# Altium integrated library Analog Devices Data Converters Analog-to-Digital Converters.IntLib: 2400 symbols (part 151 of 338)
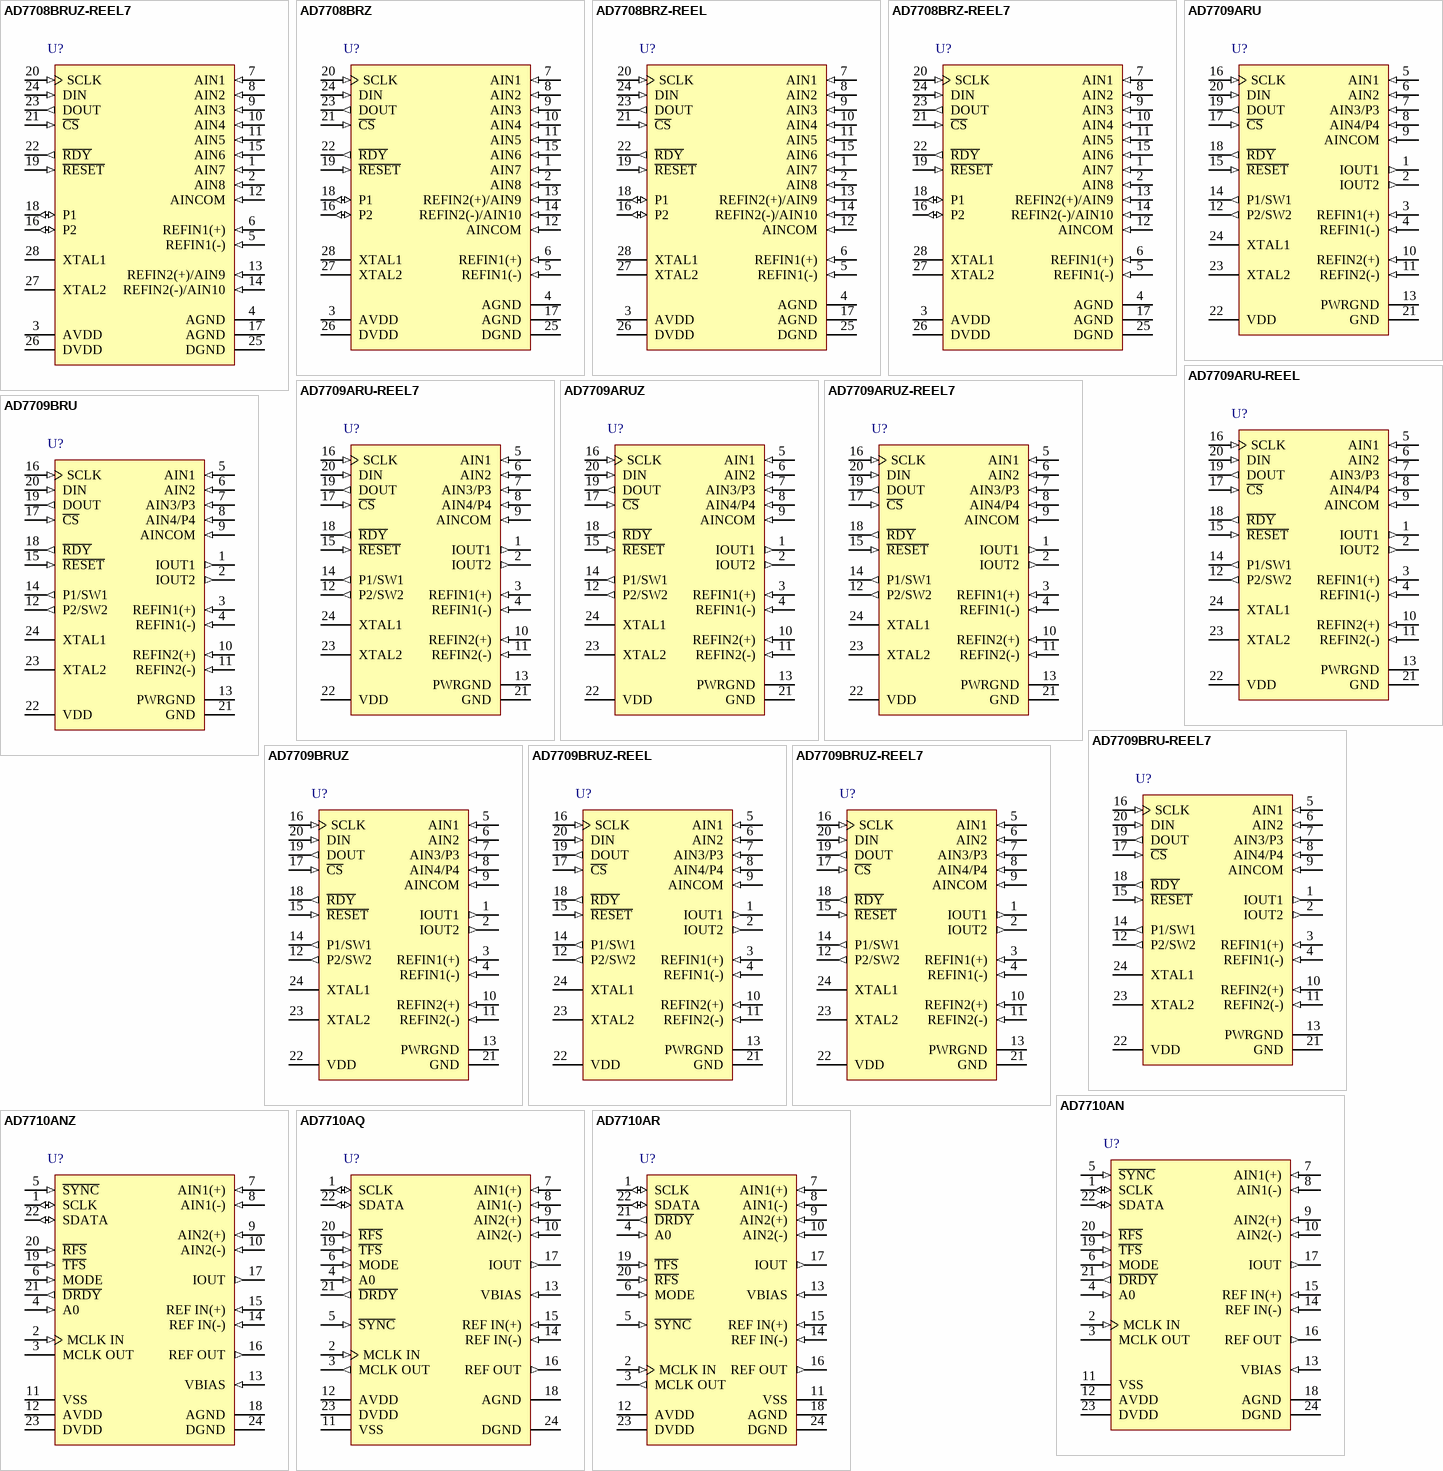
[diagram p241: symbols AD7708BRUZ-REEL7 to AD7710AR]

## AD7709BRU
designator U?
Quad 16-Bit Sigma-Delta Analog-to-Digital Converter with Serial, SPI Interface, 105SPS, -40 to +85 degC, RU-24, Tube; Part Number: AD7709; Manufacturer: Analog Devices; Resolution (Bits): 16; Channels: 4; Throughput Rate (SPS): 105; Interface: Ser, SPI; DatasheetVersion: Rev.A; PackageVersion: 2002; PackageReference: RU-24; PackageDescription: 24-Lead Thin Shrink Small Outline Package [TSSOP]; RoHS: N; Packing: Tube; Mounting Technology: Surface Mount; Code_JEDEC: MO-153-AD; ComponentLink1Description: Manufacturer URL; ComponentLink1URL: http://www.analog.com/en/index.html; ComponentLink2Description: Datasheet; ComponentLink2URL: http://www.analog.com/static/imported-files/data_sheets/AD7709.pdf; ComponentLink3Description: Package Specification; ComponentLink3URL: http://www.analog.com/static/imported-files/packages/380523655245964505593671154107510036154RU24.pdf; ComponentLink4Description: Product URL; ComponentLink4URL: http://www.analog.com/en/analog-to-digital-converters/ad-converters/ad7709/products/product.html
footprint RU-24_N (TSOP, 24-Leads, Body 7.8x4.4mm, Pitch 0.65mm, IPC Medium Density)
footprint RU-24_L (TSOP, 24-Leads, Body 7.8x4.4mm, Pitch 0.65mm, IPC High Density)
footprint RU-24_M (TSOP, 24-Leads, Body 7.8x4.4mm, Pitch 0.65mm, IPC Low Density)
pins: 1 IOUT1 (out) "Output for Internal Excitation Current Source. Either current source IEXC1, IEXC2, IEXC3, or a combination of the current sources, can be switched to this output.", 2 IOUT2 (out) "Output for Internal Excitation Current Source. Either current source IEXC1, IEXC2, IEXC3, or a combination of the current sources, can be switched to this output.", 3 REFIN1(+) (in) "Positive Reference Input. REFIN1(+) can lie anywhere between VDD and GND + 1 V. The nominal reference voltage (REFIN1(+) - REFIN1(-)) is 2.5 V, but the part is functional with a reference range from 1 V to VDD.", 4 REFIN1(-) (in) "Negative Reference Input. This reference input can lie anywhere between GND and VDD - 1 V.", 5 AIN1 (in) "Analog Input. Programmable gain input that can be used as a pseudo-differential input when used with AINCOM or as the positive input of a fully differential input pair when used with AIN2.", 6 AIN2 (in) "Analog Input. Programmable gain input that can be used as a pseudo-differential input when used with AINCOM or as the negative input of a fully differential input pair when used with AIN1.", 7 AIN3/P3 (in) "Analog Input/Digital Port Bit. Programmable gain input that can be used as a pseudo-differential input when used with AINCOM or as the positive input of a fully differential input pair when used with AIN4. This pin can also (See Datasheet)", 8 AIN4/P4 (in) "Analog Input/Digital Port Bit. Programmable gain input that can be used as a pseudo-differential input when used with AINCOM or as the negative input of a fully-differential input pair when used with AIN3. This pin can also (See Datasheet)", 9 AINCOM (in) "All analog inputs are referenced to this input when configured in pseudo-differential input mode.", 10 REFIN2(+) (in) "Positive Reference Input. REFIN2(+) can lie anywhere between VDD and GND + 1 V. The nominal reference voltage (REFIN2(+) - REFIN2(-)) is 2.5 V, but the part is functional with a reference range from 1 V to VDD.", 11 REFIN2(-) (in) "Negative Reference Input. This reference input can lie anywhere between GND and VDD - 1 V.", 12 P2/SW2 (out) "Dual-Purpose Pin. It can act as a general-purpose output (P2) bit or as a low-side power switch (SW2)  to PWRGND.", 13 PWRGND (power) "Ground Point for the Low-Side Power Switches SW2 and SW1. PWRGND must be tied to GND.", 14 P1/SW1 (out) "Dual-Purpose Pin. It can act as a general-purpose output (P1) bit or as a low-side power switch (SW1) to PWRGND.", 15 ~{RESET} (in) "Digital Input Used to Reset the ADC to Its Power-On-Reset Status. This pin has a weak pull-up internally to VDD.", 16 SCLK (in) "Serial Clock Input for Data Transfers to and from the ADC. The SCLK has a Schmitt-triggered input making the interface suitable for opto-isolated applications. The serial clock can be continuous with all data transmitted in (See Datasheet)", 17 ~{CS} (in) "Chip Select Input. This is an active low logic input used to select the AD7709. C\S\ can be used to select the AD7709 in systems with more than one device on the serial bus or as a frame synchronization signal in (See Datasheet)", 18 ~{RDY} (out) "R\D\Y\ is a Logic Low Status Output from the AD7709. R\D\Y\ is low if the ADC has valid data in its data register. This output returns high on completion of a read operation from the data register. If data is not read, (See Datasheet)", 19 DOUT (out) "Serial Data Output Accessing the Output Shift Register of the AD7709. The output shift register can contain data from any of the on-chip data or control registers.", 20 DIN (in) "Serial Data Input Accessing the Input Shift Register on the AD7709. Data in this shift register is transferred to the control registers within the ADC, the selection bits of the communications register selecting which (See Datasheet)", 21 GND (power) "Ground Reference Point for the AD7709", 22 VDD (power) "Supply Voltage, 3 V or 5 V Nominal", 23 XTAL2 "Output from the 32.768 kHz Crystal Oscillator Inverter", 24 XTAL1 "Input to the 32.768 kHz Crystal Oscillator Inverter"

## AD7709BRU-REEL7
designator U?
Quad 16-Bit Sigma-Delta Analog-to-Digital Converter with Serial, SPI Interface, 105SPS, -40 to +85 degC, RU-24, Reel; Part Number: AD7709; Manufacturer: Analog Devices; Resolution (Bits): 16; Channels: 4; Throughput Rate (SPS): 105; Interface: Ser, SPI; DatasheetVersion: Rev.A; PackageVersion: 2002; PackageReference: RU-24; PackageDescription: 24-Lead Thin Shrink Small Outline Package [TSSOP]; RoHS: N; Packing: Reel; Mounting Technology: Surface Mount; Code_JEDEC: MO-153-AD; ComponentLink1Description: Manufacturer URL; ComponentLink1URL: http://www.analog.com/en/index.html; ComponentLink2Description: Datasheet; ComponentLink2URL: http://www.analog.com/static/imported-files/data_sheets/AD7709.pdf; ComponentLink3Description: Package Specification; ComponentLink3URL: http://www.analog.com/static/imported-files/packages/380523655245964505593671154107510036154RU24.pdf; ComponentLink4Description: Product URL; ComponentLink4URL: http://www.analog.com/en/analog-to-digital-converters/ad-converters/ad7709/products/product.html
footprint RU-24_N (TSOP, 24-Leads, Body 7.8x4.4mm, Pitch 0.65mm, IPC Medium Density)
footprint RU-24_L (TSOP, 24-Leads, Body 7.8x4.4mm, Pitch 0.65mm, IPC High Density)
footprint RU-24_M (TSOP, 24-Leads, Body 7.8x4.4mm, Pitch 0.65mm, IPC Low Density)
pins: 1 IOUT1 (out) "Output for Internal Excitation Current Source. Either current source IEXC1, IEXC2, IEXC3, or a combination of the current sources, can be switched to this output.", 2 IOUT2 (out) "Output for Internal Excitation Current Source. Either current source IEXC1, IEXC2, IEXC3, or a combination of the current sources, can be switched to this output.", 3 REFIN1(+) (in) "Positive Reference Input. REFIN1(+) can lie anywhere between VDD and GND + 1 V. The nominal reference voltage (REFIN1(+) - REFIN1(-)) is 2.5 V, but the part is functional with a reference range from 1 V to VDD.", 4 REFIN1(-) (in) "Negative Reference Input. This reference input can lie anywhere between GND and VDD - 1 V.", 5 AIN1 (in) "Analog Input. Programmable gain input that can be used as a pseudo-differential input when used with AINCOM or as the positive input of a fully differential input pair when used with AIN2.", 6 AIN2 (in) "Analog Input. Programmable gain input that can be used as a pseudo-differential input when used with AINCOM or as the negative input of a fully differential input pair when used with AIN1.", 7 AIN3/P3 (in) "Analog Input/Digital Port Bit. Programmable gain input that can be used as a pseudo-differential input when used with AINCOM or as the positive input of a fully differential input pair when used with AIN4. This pin can also (See Datasheet)", 8 AIN4/P4 (in) "Analog Input/Digital Port Bit. Programmable gain input that can be used as a pseudo-differential input when used with AINCOM or as the negative input of a fully-differential input pair when used with AIN3. This pin can also (See Datasheet)", 9 AINCOM (in) "All analog inputs are referenced to this input when configured in pseudo-differential input mode.", 10 REFIN2(+) (in) "Positive Reference Input. REFIN2(+) can lie anywhere between VDD and GND + 1 V. The nominal reference voltage (REFIN2(+) - REFIN2(-)) is 2.5 V, but the part is functional with a reference range from 1 V to VDD.", 11 REFIN2(-) (in) "Negative Reference Input. This reference input can lie anywhere between GND and VDD - 1 V.", 12 P2/SW2 (out) "Dual-Purpose Pin. It can act as a general-purpose output (P2) bit or as a low-side power switch (SW2)  to PWRGND.", 13 PWRGND (power) "Ground Point for the Low-Side Power Switches SW2 and SW1. PWRGND must be tied to GND.", 14 P1/SW1 (out) "Dual-Purpose Pin. It can act as a general-purpose output (P1) bit or as a low-side power switch (SW1) to PWRGND.", 15 ~{RESET} (in) "Digital Input Used to Reset the ADC to Its Power-On-Reset Status. This pin has a weak pull-up internally to VDD.", 16 SCLK (in) "Serial Clock Input for Data Transfers to and from the ADC. The SCLK has a Schmitt-triggered input making the interface suitable for opto-isolated applications. The serial clock can be continuous with all data transmitted in (See Datasheet)", 17 ~{CS} (in) "Chip Select Input. This is an active low logic input used to select the AD7709. C\S\ can be used to select the AD7709 in systems with more than one device on the serial bus or as a frame synchronization signal in (See Datasheet)", 18 ~{RDY} (out) "R\D\Y\ is a Logic Low Status Output from the AD7709. R\D\Y\ is low if the ADC has valid data in its data register. This output returns high on completion of a read operation from the data register. If data is not read, (See Datasheet)", 19 DOUT (out) "Serial Data Output Accessing the Output Shift Register of the AD7709. The output shift register can contain data from any of the on-chip data or control registers.", 20 DIN (in) "Serial Data Input Accessing the Input Shift Register on the AD7709. Data in this shift register is transferred to the control registers within the ADC, the selection bits of the communications register selecting which (See Datasheet)", 21 GND (power) "Ground Reference Point for the AD7709", 22 VDD (power) "Supply Voltage, 3 V or 5 V Nominal", 23 XTAL2 "Output from the 32.768 kHz Crystal Oscillator Inverter", 24 XTAL1 "Input to the 32.768 kHz Crystal Oscillator Inverter"

## AD7709BRUZ
designator U?
Quad 16-Bit Sigma-Delta Analog-to-Digital Converter with Serial, SPI Interface, 105SPS, -40 to +85 degC, RU-24, Pb-Free, Tube; Part Number: AD7709; Manufacturer: Analog Devices; Resolution (Bits): 16; Channels: 4; Throughput Rate (SPS): 105; Interface: Ser, SPI; DatasheetVersion: Rev.A; PackageVersion: 2002; PackageReference: RU-24; PackageDescription: 24-Lead Thin Shrink Small Outline Package [TSSOP]; RoHS: Y; Packing: Tube; Mounting Technology: Surface Mount; Code_JEDEC: MO-153-AD; ComponentLink1Description: Manufacturer URL; ComponentLink1URL: http://www.analog.com/en/index.html; ComponentLink2Description: Datasheet; ComponentLink2URL: http://www.analog.com/static/imported-files/data_sheets/AD7709.pdf; ComponentLink3Description: Package Specification; ComponentLink3URL: http://www.analog.com/static/imported-files/packages/380523655245964505593671154107510036154RU24.pdf; ComponentLink4Description: Product URL; ComponentLink4URL: http://www.analog.com/en/analog-to-digital-converters/ad-converters/ad7709/products/product.html
footprint RU-24_N (TSOP, 24-Leads, Body 7.8x4.4mm, Pitch 0.65mm, IPC Medium Density)
footprint RU-24_L (TSOP, 24-Leads, Body 7.8x4.4mm, Pitch 0.65mm, IPC High Density)
footprint RU-24_M (TSOP, 24-Leads, Body 7.8x4.4mm, Pitch 0.65mm, IPC Low Density)
pins: 1 IOUT1 (out) "Output for Internal Excitation Current Source. Either current source IEXC1, IEXC2, IEXC3, or a combination of the current sources, can be switched to this output.", 2 IOUT2 (out) "Output for Internal Excitation Current Source. Either current source IEXC1, IEXC2, IEXC3, or a combination of the current sources, can be switched to this output.", 3 REFIN1(+) (in) "Positive Reference Input. REFIN1(+) can lie anywhere between VDD and GND + 1 V. The nominal reference voltage (REFIN1(+) - REFIN1(-)) is 2.5 V, but the part is functional with a reference range from 1 V to VDD.", 4 REFIN1(-) (in) "Negative Reference Input. This reference input can lie anywhere between GND and VDD - 1 V.", 5 AIN1 (in) "Analog Input. Programmable gain input that can be used as a pseudo-differential input when used with AINCOM or as the positive input of a fully differential input pair when used with AIN2.", 6 AIN2 (in) "Analog Input. Programmable gain input that can be used as a pseudo-differential input when used with AINCOM or as the negative input of a fully differential input pair when used with AIN1.", 7 AIN3/P3 (in) "Analog Input/Digital Port Bit. Programmable gain input that can be used as a pseudo-differential input when used with AINCOM or as the positive input of a fully differential input pair when used with AIN4. This pin can also (See Datasheet)", 8 AIN4/P4 (in) "Analog Input/Digital Port Bit. Programmable gain input that can be used as a pseudo-differential input when used with AINCOM or as the negative input of a fully-differential input pair when used with AIN3. This pin can also (See Datasheet)", 9 AINCOM (in) "All analog inputs are referenced to this input when configured in pseudo-differential input mode.", 10 REFIN2(+) (in) "Positive Reference Input. REFIN2(+) can lie anywhere between VDD and GND + 1 V. The nominal reference voltage (REFIN2(+) - REFIN2(-)) is 2.5 V, but the part is functional with a reference range from 1 V to VDD.", 11 REFIN2(-) (in) "Negative Reference Input. This reference input can lie anywhere between GND and VDD - 1 V.", 12 P2/SW2 (out) "Dual-Purpose Pin. It can act as a general-purpose output (P2) bit or as a low-side power switch (SW2)  to PWRGND.", 13 PWRGND (power) "Ground Point for the Low-Side Power Switches SW2 and SW1. PWRGND must be tied to GND.", 14 P1/SW1 (out) "Dual-Purpose Pin. It can act as a general-purpose output (P1) bit or as a low-side power switch (SW1) to PWRGND.", 15 ~{RESET} (in) "Digital Input Used to Reset the ADC to Its Power-On-Reset Status. This pin has a weak pull-up internally to VDD.", 16 SCLK (in) "Serial Clock Input for Data Transfers to and from the ADC. The SCLK has a Schmitt-triggered input making the interface suitable for opto-isolated applications. The serial clock can be continuous with all data transmitted in (See Datasheet)", 17 ~{CS} (in) "Chip Select Input. This is an active low logic input used to select the AD7709. C\S\ can be used to select the AD7709 in systems with more than one device on the serial bus or as a frame synchronization signal in (See Datasheet)", 18 ~{RDY} (out) "R\D\Y\ is a Logic Low Status Output from the AD7709. R\D\Y\ is low if the ADC has valid data in its data register. This output returns high on completion of a read operation from the data register. If data is not read, (See Datasheet)", 19 DOUT (out) "Serial Data Output Accessing the Output Shift Register of the AD7709. The output shift register can contain data from any of the on-chip data or control registers.", 20 DIN (in) "Serial Data Input Accessing the Input Shift Register on the AD7709. Data in this shift register is transferred to the control registers within the ADC, the selection bits of the communications register selecting which (See Datasheet)", 21 GND (power) "Ground Reference Point for the AD7709", 22 VDD (power) "Supply Voltage, 3 V or 5 V Nominal", 23 XTAL2 "Output from the 32.768 kHz Crystal Oscillator Inverter", 24 XTAL1 "Input to the 32.768 kHz Crystal Oscillator Inverter"

## AD7709BRUZ-REEL
designator U?
Quad 16-Bit Sigma-Delta Analog-to-Digital Converter with Serial, SPI Interface, 105SPS, -40 to +85 degC, RU-24, Pb-Free, Reel; Part Number: AD7709; Manufacturer: Analog Devices; Resolution (Bits): 16; Channels: 4; Throughput Rate (SPS): 105; Interface: Ser, SPI; DatasheetVersion: Rev.A; PackageVersion: 2002; PackageReference: RU-24; PackageDescription: 24-Lead Thin Shrink Small Outline Package [TSSOP]; RoHS: Y; Packing: Reel; Mounting Technology: Surface Mount; Code_JEDEC: MO-153-AD; ComponentLink1Description: Manufacturer URL; ComponentLink1URL: http://www.analog.com/en/index.html; ComponentLink2Description: Datasheet; ComponentLink2URL: http://www.analog.com/static/imported-files/data_sheets/AD7709.pdf; ComponentLink3Description: Package Specification; ComponentLink3URL: http://www.analog.com/static/imported-files/packages/380523655245964505593671154107510036154RU24.pdf; ComponentLink4Description: Product URL; ComponentLink4URL: http://www.analog.com/en/analog-to-digital-converters/ad-converters/ad7709/products/product.html
footprint RU-24_N (TSOP, 24-Leads, Body 7.8x4.4mm, Pitch 0.65mm, IPC Medium Density)
footprint RU-24_L (TSOP, 24-Leads, Body 7.8x4.4mm, Pitch 0.65mm, IPC High Density)
footprint RU-24_M (TSOP, 24-Leads, Body 7.8x4.4mm, Pitch 0.65mm, IPC Low Density)
pins: 1 IOUT1 (out) "Output for Internal Excitation Current Source. Either current source IEXC1, IEXC2, IEXC3, or a combination of the current sources, can be switched to this output.", 2 IOUT2 (out) "Output for Internal Excitation Current Source. Either current source IEXC1, IEXC2, IEXC3, or a combination of the current sources, can be switched to this output.", 3 REFIN1(+) (in) "Positive Reference Input. REFIN1(+) can lie anywhere between VDD and GND + 1 V. The nominal reference voltage (REFIN1(+) - REFIN1(-)) is 2.5 V, but the part is functional with a reference range from 1 V to VDD.", 4 REFIN1(-) (in) "Negative Reference Input. This reference input can lie anywhere between GND and VDD - 1 V.", 5 AIN1 (in) "Analog Input. Programmable gain input that can be used as a pseudo-differential input when used with AINCOM or as the positive input of a fully differential input pair when used with AIN2.", 6 AIN2 (in) "Analog Input. Programmable gain input that can be used as a pseudo-differential input when used with AINCOM or as the negative input of a fully differential input pair when used with AIN1.", 7 AIN3/P3 (in) "Analog Input/Digital Port Bit. Programmable gain input that can be used as a pseudo-differential input when used with AINCOM or as the positive input of a fully differential input pair when used with AIN4. This pin can also (See Datasheet)", 8 AIN4/P4 (in) "Analog Input/Digital Port Bit. Programmable gain input that can be used as a pseudo-differential input when used with AINCOM or as the negative input of a fully-differential input pair when used with AIN3. This pin can also (See Datasheet)", 9 AINCOM (in) "All analog inputs are referenced to this input when configured in pseudo-differential input mode.", 10 REFIN2(+) (in) "Positive Reference Input. REFIN2(+) can lie anywhere between VDD and GND + 1 V. The nominal reference voltage (REFIN2(+) - REFIN2(-)) is 2.5 V, but the part is functional with a reference range from 1 V to VDD.", 11 REFIN2(-) (in) "Negative Reference Input. This reference input can lie anywhere between GND and VDD - 1 V.", 12 P2/SW2 (out) "Dual-Purpose Pin. It can act as a general-purpose output (P2) bit or as a low-side power switch (SW2)  to PWRGND.", 13 PWRGND (power) "Ground Point for the Low-Side Power Switches SW2 and SW1. PWRGND must be tied to GND.", 14 P1/SW1 (out) "Dual-Purpose Pin. It can act as a general-purpose output (P1) bit or as a low-side power switch (SW1) to PWRGND.", 15 ~{RESET} (in) "Digital Input Used to Reset the ADC to Its Power-On-Reset Status. This pin has a weak pull-up internally to VDD.", 16 SCLK (in) "Serial Clock Input for Data Transfers to and from the ADC. The SCLK has a Schmitt-triggered input making the interface suitable for opto-isolated applications. The serial clock can be continuous with all data transmitted in (See Datasheet)", 17 ~{CS} (in) "Chip Select Input. This is an active low logic input used to select the AD7709. C\S\ can be used to select the AD7709 in systems with more than one device on the serial bus or as a frame synchronization signal in (See Datasheet)", 18 ~{RDY} (out) "R\D\Y\ is a Logic Low Status Output from the AD7709. R\D\Y\ is low if the ADC has valid data in its data register. This output returns high on completion of a read operation from the data register. If data is not read, (See Datasheet)", 19 DOUT (out) "Serial Data Output Accessing the Output Shift Register of the AD7709. The output shift register can contain data from any of the on-chip data or control registers.", 20 DIN (in) "Serial Data Input Accessing the Input Shift Register on the AD7709. Data in this shift register is transferred to the control registers within the ADC, the selection bits of the communications register selecting which (See Datasheet)", 21 GND (power) "Ground Reference Point for the AD7709", 22 VDD (power) "Supply Voltage, 3 V or 5 V Nominal", 23 XTAL2 "Output from the 32.768 kHz Crystal Oscillator Inverter", 24 XTAL1 "Input to the 32.768 kHz Crystal Oscillator Inverter"

## AD7709BRUZ-REEL7
designator U?
Quad 16-Bit Sigma-Delta Analog-to-Digital Converter with Serial, SPI Interface, 105SPS, -40 to +85 degC, RU-24, Pb-Free, Reel; Part Number: AD7709; Manufacturer: Analog Devices; Resolution (Bits): 16; Channels: 4; Throughput Rate (SPS): 105; Interface: Ser, SPI; DatasheetVersion: Rev.A; PackageVersion: 2002; PackageReference: RU-24; PackageDescription: 24-Lead Thin Shrink Small Outline Package [TSSOP]; RoHS: Y; Packing: Reel; Mounting Technology: Surface Mount; Code_JEDEC: MO-153-AD; ComponentLink1Description: Manufacturer URL; ComponentLink1URL: http://www.analog.com/en/index.html; ComponentLink2Description: Datasheet; ComponentLink2URL: http://www.analog.com/static/imported-files/data_sheets/AD7709.pdf; ComponentLink3Description: Package Specification; ComponentLink3URL: http://www.analog.com/static/imported-files/packages/380523655245964505593671154107510036154RU24.pdf; ComponentLink4Description: Product URL; ComponentLink4URL: http://www.analog.com/en/analog-to-digital-converters/ad-converters/ad7709/products/product.html
footprint RU-24_N (TSOP, 24-Leads, Body 7.8x4.4mm, Pitch 0.65mm, IPC Medium Density)
footprint RU-24_L (TSOP, 24-Leads, Body 7.8x4.4mm, Pitch 0.65mm, IPC High Density)
footprint RU-24_M (TSOP, 24-Leads, Body 7.8x4.4mm, Pitch 0.65mm, IPC Low Density)
pins: 1 IOUT1 (out) "Output for Internal Excitation Current Source. Either current source IEXC1, IEXC2, IEXC3, or a combination of the current sources, can be switched to this output.", 2 IOUT2 (out) "Output for Internal Excitation Current Source. Either current source IEXC1, IEXC2, IEXC3, or a combination of the current sources, can be switched to this output.", 3 REFIN1(+) (in) "Positive Reference Input. REFIN1(+) can lie anywhere between VDD and GND + 1 V. The nominal reference voltage (REFIN1(+) - REFIN1(-)) is 2.5 V, but the part is functional with a reference range from 1 V to VDD.", 4 REFIN1(-) (in) "Negative Reference Input. This reference input can lie anywhere between GND and VDD - 1 V.", 5 AIN1 (in) "Analog Input. Programmable gain input that can be used as a pseudo-differential input when used with AINCOM or as the positive input of a fully differential input pair when used with AIN2.", 6 AIN2 (in) "Analog Input. Programmable gain input that can be used as a pseudo-differential input when used with AINCOM or as the negative input of a fully differential input pair when used with AIN1.", 7 AIN3/P3 (in) "Analog Input/Digital Port Bit. Programmable gain input that can be used as a pseudo-differential input when used with AINCOM or as the positive input of a fully differential input pair when used with AIN4. This pin can also (See Datasheet)", 8 AIN4/P4 (in) "Analog Input/Digital Port Bit. Programmable gain input that can be used as a pseudo-differential input when used with AINCOM or as the negative input of a fully-differential input pair when used with AIN3. This pin can also (See Datasheet)", 9 AINCOM (in) "All analog inputs are referenced to this input when configured in pseudo-differential input mode.", 10 REFIN2(+) (in) "Positive Reference Input. REFIN2(+) can lie anywhere between VDD and GND + 1 V. The nominal reference voltage (REFIN2(+) - REFIN2(-)) is 2.5 V, but the part is functional with a reference range from 1 V to VDD.", 11 REFIN2(-) (in) "Negative Reference Input. This reference input can lie anywhere between GND and VDD - 1 V.", 12 P2/SW2 (out) "Dual-Purpose Pin. It can act as a general-purpose output (P2) bit or as a low-side power switch (SW2)  to PWRGND.", 13 PWRGND (power) "Ground Point for the Low-Side Power Switches SW2 and SW1. PWRGND must be tied to GND.", 14 P1/SW1 (out) "Dual-Purpose Pin. It can act as a general-purpose output (P1) bit or as a low-side power switch (SW1) to PWRGND.", 15 ~{RESET} (in) "Digital Input Used to Reset the ADC to Its Power-On-Reset Status. This pin has a weak pull-up internally to VDD.", 16 SCLK (in) "Serial Clock Input for Data Transfers to and from the ADC. The SCLK has a Schmitt-triggered input making the interface suitable for opto-isolated applications. The serial clock can be continuous with all data transmitted in (See Datasheet)", 17 ~{CS} (in) "Chip Select Input. This is an active low logic input used to select the AD7709. C\S\ can be used to select the AD7709 in systems with more than one device on the serial bus or as a frame synchronization signal in (See Datasheet)", 18 ~{RDY} (out) "R\D\Y\ is a Logic Low Status Output from the AD7709. R\D\Y\ is low if the ADC has valid data in its data register. This output returns high on completion of a read operation from the data register. If data is not read, (See Datasheet)", 19 DOUT (out) "Serial Data Output Accessing the Output Shift Register of the AD7709. The output shift register can contain data from any of the on-chip data or control registers.", 20 DIN (in) "Serial Data Input Accessing the Input Shift Register on the AD7709. Data in this shift register is transferred to the control registers within the ADC, the selection bits of the communications register selecting which (See Datasheet)", 21 GND (power) "Ground Reference Point for the AD7709", 22 VDD (power) "Supply Voltage, 3 V or 5 V Nominal", 23 XTAL2 "Output from the 32.768 kHz Crystal Oscillator Inverter", 24 XTAL1 "Input to the 32.768 kHz Crystal Oscillator Inverter"

## AD7710AN
designator U?
Dual 24-Bit Signal Conditioning Analog-to-Digital Converter with Serial Interface, 1.028KSPS, -40 to +85 degC, N-24-1, Tube; Part Number: AD7710; Manufacturer: Analog Devices; Resolution (Bits): 24; Channels: 2; Throughput Rate (SPS): 1.028K; Interface: Ser; DatasheetVersion: Rev.G; PackageVersion: 071006-A; PackageReference: N-24-1; PackageDescription: 24-Lead Plastic Dual In-Line Package [PDIP] Narrow Body; RoHS: N; Packing: Tube; Mounting Technology: Through-hole; Code_JEDEC: MS-001; ComponentLink1Description: Manufacturer URL; ComponentLink1URL: http://www.analog.com/en/index.html; ComponentLink2Description: Datasheet; ComponentLink2URL: http://www.analog.com/static/imported-files/data_sheets/AD7710.pdf; ComponentLink3Description: Package Specification; ComponentLink3URL: http://www.analog.com/static/imported-files/packages/50726455539629N_24_1.pdf; ComponentLink4Description: Product URL; ComponentLink4URL: http://www.analog.com/en/analog-to-digital-converters/ad-converters/ad7710/products/product.html
footprint N-24-1 (DIP, 24-Leads, Row Spacing 7.62mm, Pitch 2.54mm, Body 31.9x6.6mm)
pins: 1 SCLK (io) "Serial Clock. Logic input/output, depending on the status of the MODE pin. When MODE is high, the device is in its self-clocking mode, and the SCLK pin provides a serial clock output. This SCLK becomes active when R\F\S\ or (See Datasheet)", 2 MCLK IN (in) "Master Clock Signal for the Device. This can be provided in the form of a crystal or external clock. A crystal can be tied across the MCLK IN and MCLK OUT pins. Alternatively, the MCLK IN pin can be driven with a CMOS (See Datasheet)", 3 MCLK OUT "When the master clock for the device is a crystal, the crystal is connected between MCLK IN and MCLK OUT.", 4 A0 (in) "Address Input. With this input low, reading and writing to the device is to the control register. With this input high, access is to either the data register or the calibration registers.", 5 ~{SYNC} (in) "Logic Input. Allows for synchronization of the digital filters when using a number of AD7710s. It resets the nodes of the digital filter.", 6 MODE (in) "Logic Input. When this pin is high, the device is in its self-clocking mode; with this pin low, the device is in its external clocking mode.", 7 AIN1(+) (in) "Analog Input Channel 1. Positive input of the programmable gain differential analog input. The AIN1(+) input is connected to an output current source that can be used to check that an external transducer has burned out or (See Datasheet)", 8 AIN1(-) (in) "Analog Input Channel 1. Negative input of the programmable gain differential analog input.", 9 AIN2(+) (in) "Analog Input Channel 2. Positive input of the programmable gain differential analog input.", 10 AIN2(-) (in) "Analog Input Channel 2. Negative input of the programmable gain differential analog input.", 11 VSS (power) "Analog Negative Supply, 0 V to -5 V. Tied to AGND for single-supply operation. The input voltage on AIN1 or AIN2 should not go > 30 mV negative w.r.t. VSS for correct operation of the device.", 12 AVDD (power) "Analog Positive Supply Voltage, 5 V to 10 V.", 13 VBIAS (in) "Input Bias Voltage. This input voltage should be set such that VBIAS + 0.85 x VREF < AVDD and VBIAS - 0.85 x VREF > VSS where VREF is REF IN(+) - REF IN(-). Ideally, this should be tied halfway between AVDD and VSS. Thus (See Datasheet)", 14 REF IN(-) (in) "Reference Input. The REF IN(-) can lie anywhere between AVDD and VSS provided REF IN(+) is greater than REF IN(-).", 15 REF IN(+) (in) "Reference Input. The reference input is differential providing that REF IN(+) is greater than REF IN(-). REF IN(+) can lie anywhere between AVDD and VSS.", 16 REF OUT (out) "Reference Output. The internal 2.5 V reference is provided at this pin. This is a single-ended output which is referred to AGND. It is a buffered output which is capable of providing 1 mA to an external load.", 17 IOUT (out) "Compensation Current Output. A 20 μA constant current is provided at this pin. This current can be used in association with an external thermistor to provide cold junction compensation in thermocouple applications.This (See Datasheet)", 18 AGND (power) "Ground Reference Point for Analog Circuitry.", 19 ~{TFS} (in) "Transmit Frame Synchronization. Active low logic input used to write serial data to the device with serial data expected after the falling edge of this pulse. In the self-clocking mode, the serial clock becomes active after (See Datasheet)", 20 ~{RFS} (in) "Receive Frame Synchronization. Active low logic input used to access serial data from the device. In the self-clocking mode, the SCLK and SDATA lines both become active after R\F\S\ goes low. In the external clocking mode, (See Datasheet)", 21 ~{DRDY} (out) "Logic Output. A falling edge indicates that a new output word is available for transmission. The D\R\D\Y\ pin will return high upon completion of transmission of a full output word. D\R\D\Y\ is also used to indicate when the (See Datasheet)", 22 SDATA (io) "Serial Data. Input/output with serial data being written to either the control register or the calibration registers, and serial data being accessed from the control register, calibration registers, or the data register. (See Datasheet)", 23 DVDD (power) "Digital Supply Voltage, 5 V. DVDD should not exceed AVDD by more than 0.3 V in normal operation.", 24 DGND (power) "Ground Reference Point for Digital Circuitry."

## AD7710ANZ
designator U?
Dual 24-Bit Signal Conditioning Analog-to-Digital Converter with Serial Interface, 1.028KSPS, -40 to +85 degC, N-24-1, Pb-Free, Tube; Part Number: AD7710; Manufacturer: Analog Devices; Resolution (Bits): 24; Channels: 2; Throughput Rate (SPS): 1.028K; Interface: Ser; DatasheetVersion: Rev.G; PackageVersion: 071006-A; PackageReference: N-24-1; PackageDescription: 24-Lead Plastic Dual In-Line Package [PDIP] Narrow Body; RoHS: Y; Packing: Tube; Mounting Technology: Through-hole; Code_JEDEC: MS-001; ComponentLink1Description: Manufacturer URL; ComponentLink1URL: http://www.analog.com/en/index.html; ComponentLink2Description: Datasheet; ComponentLink2URL: http://www.analog.com/static/imported-files/data_sheets/AD7710.pdf; ComponentLink3Description: Package Specification; ComponentLink3URL: http://www.analog.com/static/imported-files/packages/50726455539629N_24_1.pdf; ComponentLink4Description: Product URL; ComponentLink4URL: http://www.analog.com/en/analog-to-digital-converters/ad-converters/ad7710/products/product.html
footprint N-24-1 (DIP, 24-Leads, Row Spacing 7.62mm, Pitch 2.54mm, Body 31.9x6.6mm)
pins: 1 SCLK (io) "Serial Clock. Logic input/output, depending on the status of the MODE pin. When MODE is high, the device is in its self-clocking mode, and the SCLK pin provides a serial clock output. This SCLK becomes active when R\F\S\ or (See Datasheet)", 2 MCLK IN (in) "Master Clock Signal for the Device. This can be provided in the form of a crystal or external clock. A crystal can be tied across the MCLK IN and MCLK OUT pins. Alternatively, the MCLK IN pin can be driven with a CMOS (See Datasheet)", 3 MCLK OUT "When the master clock for the device is a crystal, the crystal is connected between MCLK IN and MCLK OUT.", 4 A0 (in) "Address Input. With this input low, reading and writing to the device is to the control register. With this input high, access is to either the data register or the calibration registers.", 5 ~{SYNC} (in) "Logic Input. Allows for synchronization of the digital filters when using a number of AD7710s. It resets the nodes of the digital filter.", 6 MODE (in) "Logic Input. When this pin is high, the device is in its self-clocking mode; with this pin low, the device is in its external clocking mode.", 7 AIN1(+) (in) "Analog Input Channel 1. Positive input of the programmable gain differential analog input. The AIN1(+) input is connected to an output current source that can be used to check that an external transducer has burned out or (See Datasheet)", 8 AIN1(-) (in) "Analog Input Channel 1. Negative input of the programmable gain differential analog input.", 9 AIN2(+) (in) "Analog Input Channel 2. Positive input of the programmable gain differential analog input.", 10 AIN2(-) (in) "Analog Input Channel 2. Negative input of the programmable gain differential analog input.", 11 VSS (power) "Analog Negative Supply, 0 V to -5 V. Tied to AGND for single-supply operation. The input voltage on AIN1 or AIN2 should not go > 30 mV negative w.r.t. VSS for correct operation of the device.", 12 AVDD (power) "Analog Positive Supply Voltage, 5 V to 10 V.", 13 VBIAS (in) "Input Bias Voltage. This input voltage should be set such that VBIAS + 0.85 x VREF < AVDD and VBIAS - 0.85 x VREF > VSS where VREF is REF IN(+) - REF IN(-). Ideally, this should be tied halfway between AVDD and VSS. Thus (See Datasheet)", 14 REF IN(-) (in) "Reference Input. The REF IN(-) can lie anywhere between AVDD and VSS provided REF IN(+) is greater than REF IN(-).", 15 REF IN(+) (in) "Reference Input. The reference input is differential providing that REF IN(+) is greater than REF IN(-). REF IN(+) can lie anywhere between AVDD and VSS.", 16 REF OUT (out) "Reference Output. The internal 2.5 V reference is provided at this pin. This is a single-ended output which is referred to AGND. It is a buffered output which is capable of providing 1 mA to an external load.", 17 IOUT (out) "Compensation Current Output. A 20 μA constant current is provided at this pin. This current can be used in association with an external thermistor to provide cold junction compensation in thermocouple applications.This (See Datasheet)", 18 AGND (power) "Ground Reference Point for Analog Circuitry.", 19 ~{TFS} (in) "Transmit Frame Synchronization. Active low logic input used to write serial data to the device with serial data expected after the falling edge of this pulse. In the self-clocking mode, the serial clock becomes active after (See Datasheet)", 20 ~{RFS} (in) "Receive Frame Synchronization. Active low logic input used to access serial data from the device. In the self-clocking mode, the SCLK and SDATA lines both become active after R\F\S\ goes low. In the external clocking mode, (See Datasheet)", 21 ~{DRDY} (out) "Logic Output. A falling edge indicates that a new output word is available for transmission. The D\R\D\Y\ pin will return high upon completion of transmission of a full output word. D\R\D\Y\ is also used to indicate when the (See Datasheet)", 22 SDATA (io) "Serial Data. Input/output with serial data being written to either the control register or the calibration registers, and serial data being accessed from the control register, calibration registers, or the data register. (See Datasheet)", 23 DVDD (power) "Digital Supply Voltage, 5 V. DVDD should not exceed AVDD by more than 0.3 V in normal operation.", 24 DGND (power) "Ground Reference Point for Digital Circuitry."

## AD7710AQ
designator U?
Dual 24-Bit Signal Conditioning Analog-to-Digital Converter with Serial Interface, 1.028KSPS, -40 to +85 degC, Q-24, Tube; Part Number: AD7710; Manufacturer: Analog Devices; Resolution (Bits): 24; Channels: 2; Throughput Rate (SPS): 1.028K; Interface: Ser; DatasheetVersion: Rev.G; PackageVersion: 2000; PackageReference: Q-24; PackageDescription: 24-Lead Ceramic Dual In-Line Package [CERDIP]; RoHS: N; Packing: Tube; Mounting Technology: Through-hole; ComponentLink1Description: Manufacturer URL; ComponentLink1URL: http://www.analog.com/en/index.html; ComponentLink2Description: Datasheet; ComponentLink2URL: http://www.analog.com/static/imported-files/data_sheets/AD7710.pdf; ComponentLink3Description: Package Specification; ComponentLink3URL: http://www.analog.com/static/imported-files/data_sheets/AD7837_7847.pdf; ComponentLink4Description: Product URL; ComponentLink4URL: http://www.analog.com/en/analog-to-digital-converters/ad-converters/ad7710/products/product.html
footprint Q-24 (DIP, 24-Leads, Row Spacing 7.62mm, Pitch 2.54mm, Body 31.9x6.7mm)
pins: 1 SCLK (io) "Serial Clock. Logic input/output, depending on the status of the MODE pin. When MODE is high, the device is in its self-clocking mode, and the SCLK pin provides a serial clock output. This SCLK becomes active when R\F\S\ or (See Datasheet)", 2 MCLK IN (in) "Master Clock Signal for the Device. This can be provided in the form of a crystal or external clock. A crystal can be tied across the MCLK IN and MCLK OUT pins. Alternatively, the MCLK IN pin can be driven with a (See Datasheet)", 3 MCLK OUT (out) "When the master clock for the device is a crystal, the crystal is connected between MCLK IN and MCLK OUT.", 4 A0 (in) "Address Input. With this input low, reading and writing to the device is to the control register. With this input high, access is to either the data register or the calibration registers.", 5 ~{SYNC} (in) "Logic Input. Allows for synchronization of the digital filters when using a number of AD7710s. It resets the nodes of the digital filter.", 6 MODE (in) "Logic Input. When this pin is high, the device is in its self-clocking mode; with this pin low, the device is in its external clocking mode.", 7 AIN1(+) (in) "Analog Input Channel 1. Positive input of the programmable gain differential analog input. The AIN1(+) input is connected to an output current source that can be used to check that an external transducer has burned out or (See Datasheet)", 8 AIN1(-) (in) "Analog Input Channel 1. Negative input of the programmable gain differential analog input.", 9 AIN2(+) (in) "Analog Input Channel 2. Positive input of the programmable gain differential analog input.", 10 AIN2(-) (in) "Analog Input Channel 2. Negative input of the programmable gain differential analog input.", 11 VSS (power) "Analog Negative Supply, 0 V to -5 V. Tied to AGND for single-supply operation. The input voltage on AIN1 or AIN2 should not go > 30 mV negative w.r.t. VSS for correct operation of the device.", 12 AVDD (power) "Analog Positive Supply Voltage, 5 V to 10 V.", 13 VBIAS (in) "Input Bias Voltage. This input voltage should be set such that VBIAS + 0.85 x VREF < AVDD and VBIAS - 0.85 x VREF  > VSS where VREF is REF IN(+) - REF IN(-). Ideally, this should be tied halfway between AVDD and VSS. Thus (See Datasheet)", 14 REF IN(-) (in) "Reference Input. The REF IN(-) can lie anywhere between AVDD and VSS provided REF IN(+) is greater than REF IN(-).", 15 REF IN(+) (in) "Reference Input. The reference input is differential providing that REF IN(+) is greater than REF IN(-).REF IN(+) can lie anywhere between AVDD and VSS.", 16 REF OUT (out) "Reference Output. The internal 2.5 V reference is provided at this pin. This is a single-ended output which is referred to AGND. It is a buffered output which is capable of providing 1 mA to an external load.", 17 IOUT (out) "Compensation Current Output. A 20 uA constant current is provided at this pin. This current can be used in association with an external thermistor to provide cold junction compensation in thermocouple applications. This (See Datasheet)", 18 AGND (power) "Ground Reference Point for Analog Circuitry.", 19 ~{TFS} (in) "Transmit Frame Synchronization. Active low logic input used to write serial data to the device with serial data expected after the falling edge of this pulse. In the self-clocking mode, the serial clock becomes active after (See Datasheet)", 20 ~{RFS} (in) "Receive Frame Synchronization. Active low logic input used to access serial data from the device. In the self-clocking mode, the SCLK and SDATA lines both become active after R\F\S\ goes low. In the external clocking mode, (See Datasheet)", 21 ~{DRDY} (out) "Logic Output. A falling edge indicates that a new output word is available for transmission. The DRDY pin will return high upon completion of transmission of a full output word. DRDY is also used to indicate when the AD7711 (See Datasheet)", 22 SDATA (io) "Serial Data. Input/output with serial data being written to either the control register or the calibration registers, and serial data being accessed from the control register, calibration registers, or the data register. (See Datasheet)", 23 DVDD (power) "Digital Supply Voltage, 5 V. DVDD should not exceed AVDD by more than 0.3 V in normal operation.", 24 DGND (power) "Ground Reference Point for Digital Circuitry."

## AD7710AR
designator U?
Dual 24-Bit Signal Conditioning Analog-to-Digital Converter with Serial Interface, 1.028KSPS, -40 to +85 degC, RW-24, Tube; Part Number: AD7710; Manufacturer: Analog Devices; Resolution (Bits): 24; Channels: 2; Throughput Rate (SPS): 1.028K; Interface: Ser; DatasheetVersion: Rev.G; PackageVersion: 060706-A; PackageReference: RW-24; PackageDescription: 24-Lead Standard Small Outline Package [SOIC_W]; RoHS: N; Packing: Tube; Mounting Technology: Surface Mount; Code_JEDEC: MS-013-AD; ComponentLink1Description: Manufacturer URL; ComponentLink1URL: http://www.analog.com/en/index.html; ComponentLink2Description: Datasheet; ComponentLink2URL: http://www.analog.com/static/imported-files/data_sheets/AD7710.pdf; ComponentLink3Description: Package Specification; ComponentLink3URL: http://www.analog.com/static/imported-files/packages/33665150946139RW_24.pdf; ComponentLink4Description: Product URL; ComponentLink4URL: http://www.analog.com/en/analog-to-digital-converters/ad-converters/ad7710/products/product.html
footprint RW-24_N (SOIC, 24-Leads, Body 15.4x7.5mm, Pitch 1.27mm, IPC Medium Density)
footprint RW-24_L (SOIC, 24-Leads, Body 15.4x7.5mm, Pitch 1.27mm, IPC High Density)
footprint RW-24_M (SOIC, 24-Leads, Body 15.4x7.5mm, Pitch 1.27mm, IPC Low Density)
pins: 1 SCLK (io) "Serial Clock. Logic input/output, depending on the status of the MODE pin. When MODE is high, the device is in its self-clocking mode, and the SCLK pin provides a serial clock output. This SCLK becomes active when R\F\S\ or (See Datasheet)", 2 MCLK IN (in) "Master Clock Signal for the Device. This can be provided in the form of a crystal or external clock. A crystal can be tied across the MCLK IN and MCLK OUT pins. Alternatively, the MCLK IN pin can be driven with a (See Datasheet)", 3 MCLK OUT (out) "When the master clock for the device is a crystal, the crystal is connected between MCLK IN and MCLK OUT.", 4 A0 (in) "Address Input. With this input low, reading and writing to the device is to the control register. With this input high, access is to either the data register or the calibration registers.", 5 ~{SYNC} (in) "Logic Input. Allows for synchronization of the digital filters when using a number of AD7710s. It resets the nodes of the digital filter.", 6 MODE (in) "Logic Input. When this pin is high, the device is in its self-clocking mode; with this pin low, the device is in its external clocking mode.", 7 AIN1(+) (in) "Analog Input Channel 1. Positive input of the programmable gain differential analog input. The AIN1(+) input is connected to an output current source that can be used to check that an external transducer has burned out or (See Datasheet)", 8 AIN1(-) (in) "Analog Input Channel 1. Negative input of the programmable gain differential analog input.", 9 AIN2(+) (in) "Analog Input Channel 2. Positive input of the programmable gain differential analog input.", 10 AIN2(-) (in) "Analog Input Channel 2. Negative input of the programmable gain differential analog input.", 11 VSS (power) "Analog Negative Supply, 0 V to -5 V. Tied to AGND for single-supply operation. The input voltage on AIN1 or AIN2 should not go > 30 mV negative w.r.t. VSS for correct operation of the device.", 12 AVDD (power) "Analog Positive Supply Voltage, 5 V to 10 V.", 13 VBIAS (in) "Input Bias Voltage. This input voltage should be set such that VBIAS + 0.85 x VREF < AVDD and VBIAS - 0.85 x VREF  > VSS where VREF is REF IN(+) - REF IN(-). Ideally, this should be tied halfway between AVDD and VSS. Thus (See Datasheet)", 14 REF IN(-) (in) "Reference Input. The REF IN(-) can lie anywhere between AVDD and VSS provided REF IN(+) is greater than REF IN(-).", 15 REF IN(+) (in) "Reference Input. The reference input is differential providing that REF IN(+) is greater than REF IN(-). REF IN(+) can lie anywhere between AVDD and VSS.", 16 REF OUT (out) "Reference Output. The internal 2.5 V reference is provided at this pin. This is a single-ended output which is referred to AGND. It is a buffered output which is capable of providing 1 mA to an external load.", 17 IOUT (out) "Compensation Current Output. A 20 uA constant current is provided at this pin. This current can be used in association with an external thermistor to provide cold junction compensation in thermocouple applications. This (See Datasheet)", 18 AGND (power) "Ground Reference Point for Analog Circuitry.", 19 ~{TFS} (in) "Transmit Frame Synchronization. Active low logic input used to write serial data to the device with serial data expected after the falling edge of this pulse. In the self-clocking mode, the serial clock becomes active after (See Datasheet)", 20 ~{RFS} (in) "Receive Frame Synchronization. Active low logic input used to access serial data from the device. In the self-clocking mode, the SCLK and SDATA lines both become active after R\F\S\ goes low. In the external clocking mode, (See Datasheet)", 21 ~{DRDY} (out) "Logic Output. A falling edge indicates that a new output word is available for transmission. The D\R\D\Y\ pin will return high upon completion of transmission of a full output word. D\R\D\Y\ is also used to indicate when the (See Datasheet)", 22 SDATA (io) "Serial Data. Input/output with serial data being written to either the control register or the calibration registers, and serial data being accessed from the control register, calibration registers, or the data register. (See Datasheet)", 23 DVDD (power) "Digital Supply Voltage, 5 V. DVDD should not exceed AVDD by more than 0.3 V in normal operation.", 24 DGND (power) "Ground Reference Point for Digital Circuitry."

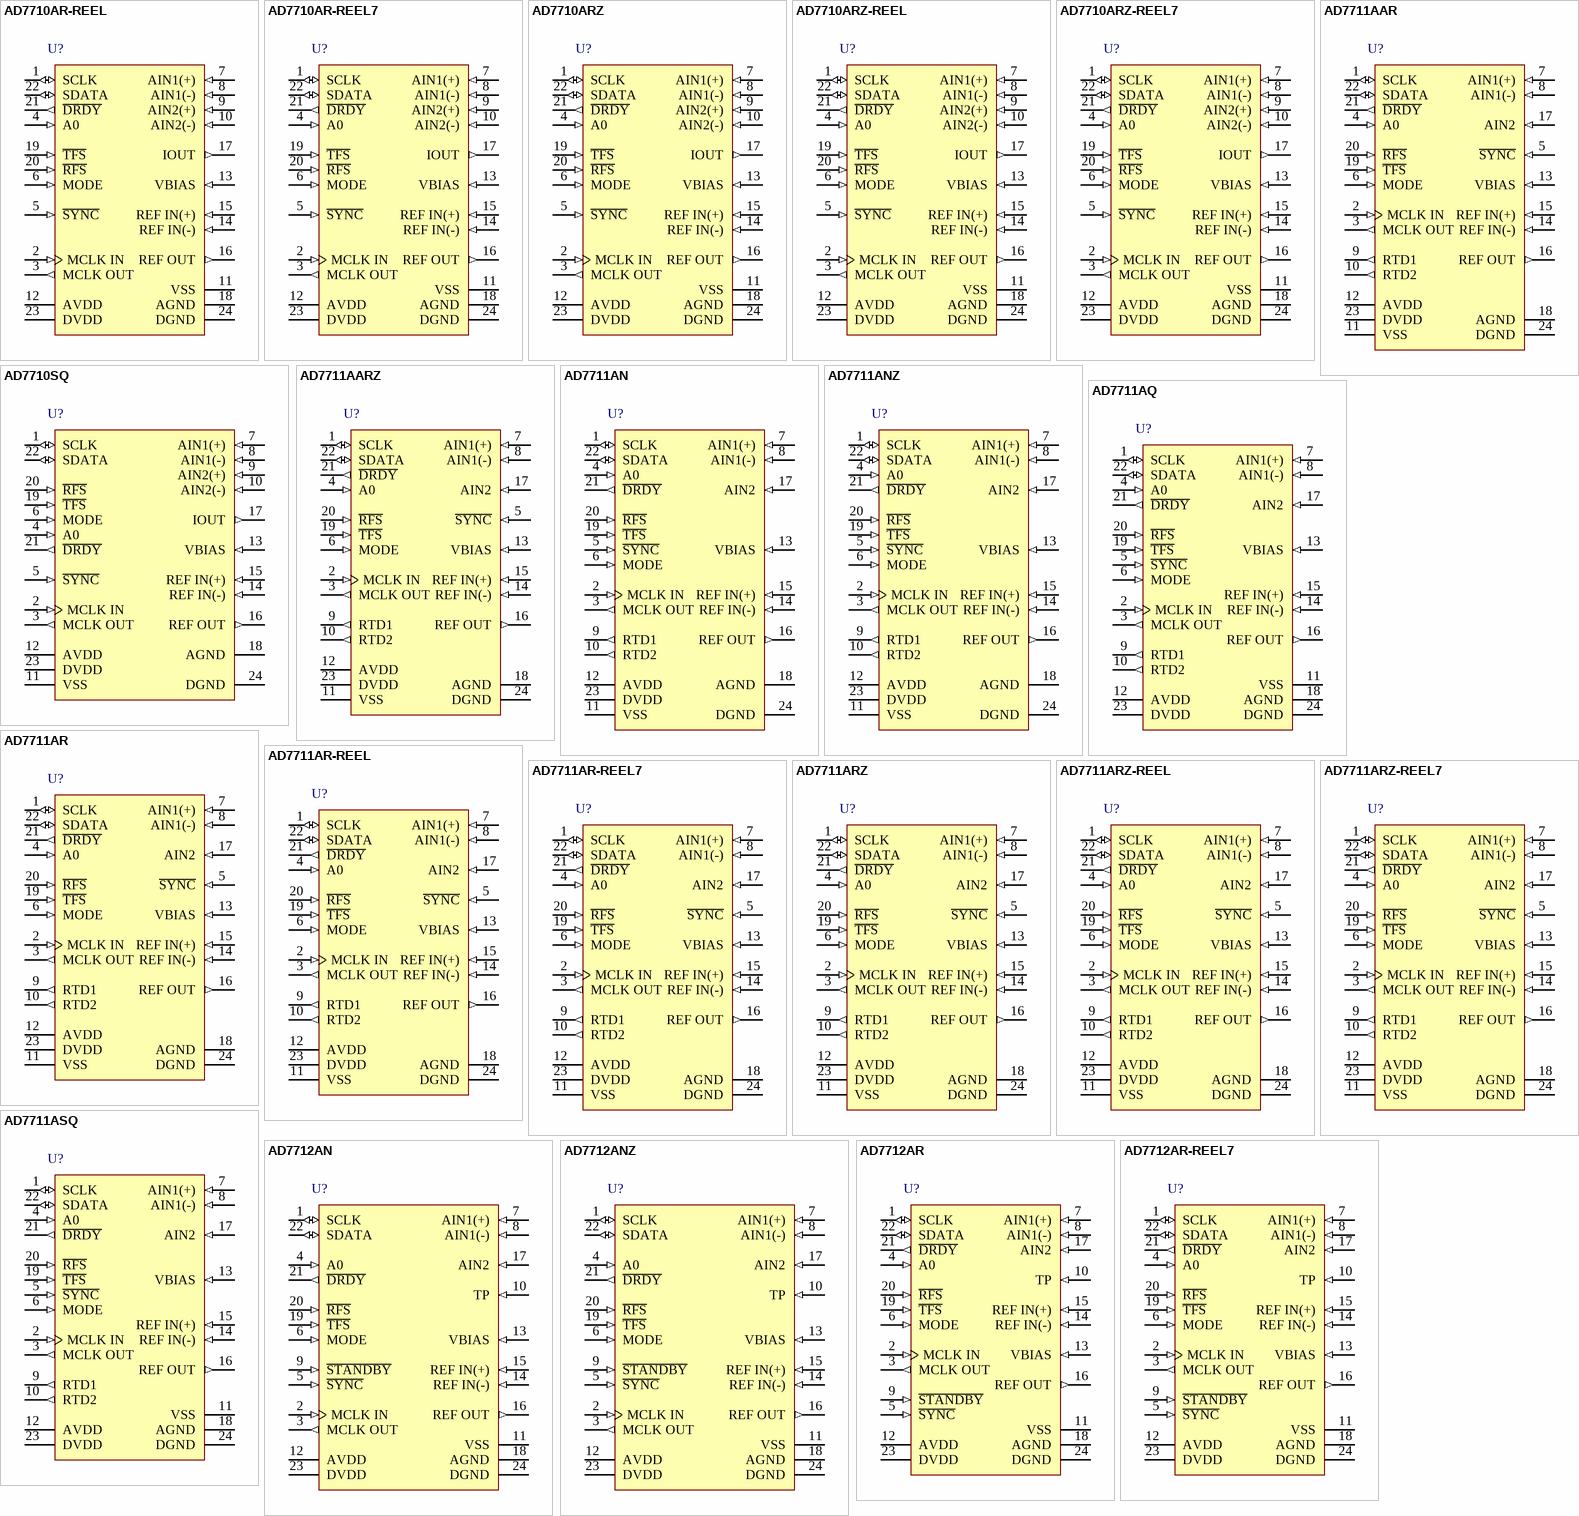
[diagram p50: symbols AD7710AR-REEL to AD7712AR-REEL7]